# EAGLE library part CAN_TRANSCEIVER_(SN65HVD252D) (library myFab)
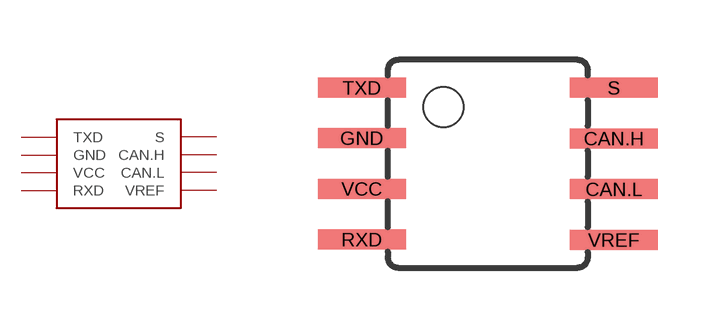
[diagram p29: symbol with the pads of CAN_TRANSCEIVER_(SN65HVD252D); footprint CAN_TRANSCEIVER_(SN65HVD252D)]

Designator prefix -

## CAN_TRANSCEIVER_(SN65HVD252D)SOIC-8SOIC-8  [CAN_TRANSCEIVER_(SN65HVD252D)]
CAN.H  CAN.H
CAN.L  CAN.L
GND  GND
RXD  RXD
S  S
TXD  TXD
VCC  VCC
VREF  VREF

## Footprint CAN_TRANSCEIVER_(SN65HVD252D) (pad centres in mm)
Wide Plastic Gull Wing Small Outline Package
smd 2.2 x 0.5: CAN.H 3.154,0.635; CAN.L 3.154,-0.635; GND -3.154,0.645; RXD -3.154,-1.895; S 3.154,1.905; TXD -3.154,1.905; VCC -3.154,-0.625; VREF 3.154,-1.905